# Altium footprint library Generic Devices.PcbLib: 33 footprints (part 1 of 3)
Each footprint in its own frame and in the unit in brackets; x right, y up, seen from the top. Pads: shape width x height; smd on the part's side, far side on the other; paste and mask are expansions set on the pad; w line width, h text height; cw(c..) or ccw(c..) is an arc to the next point about the centre after c.
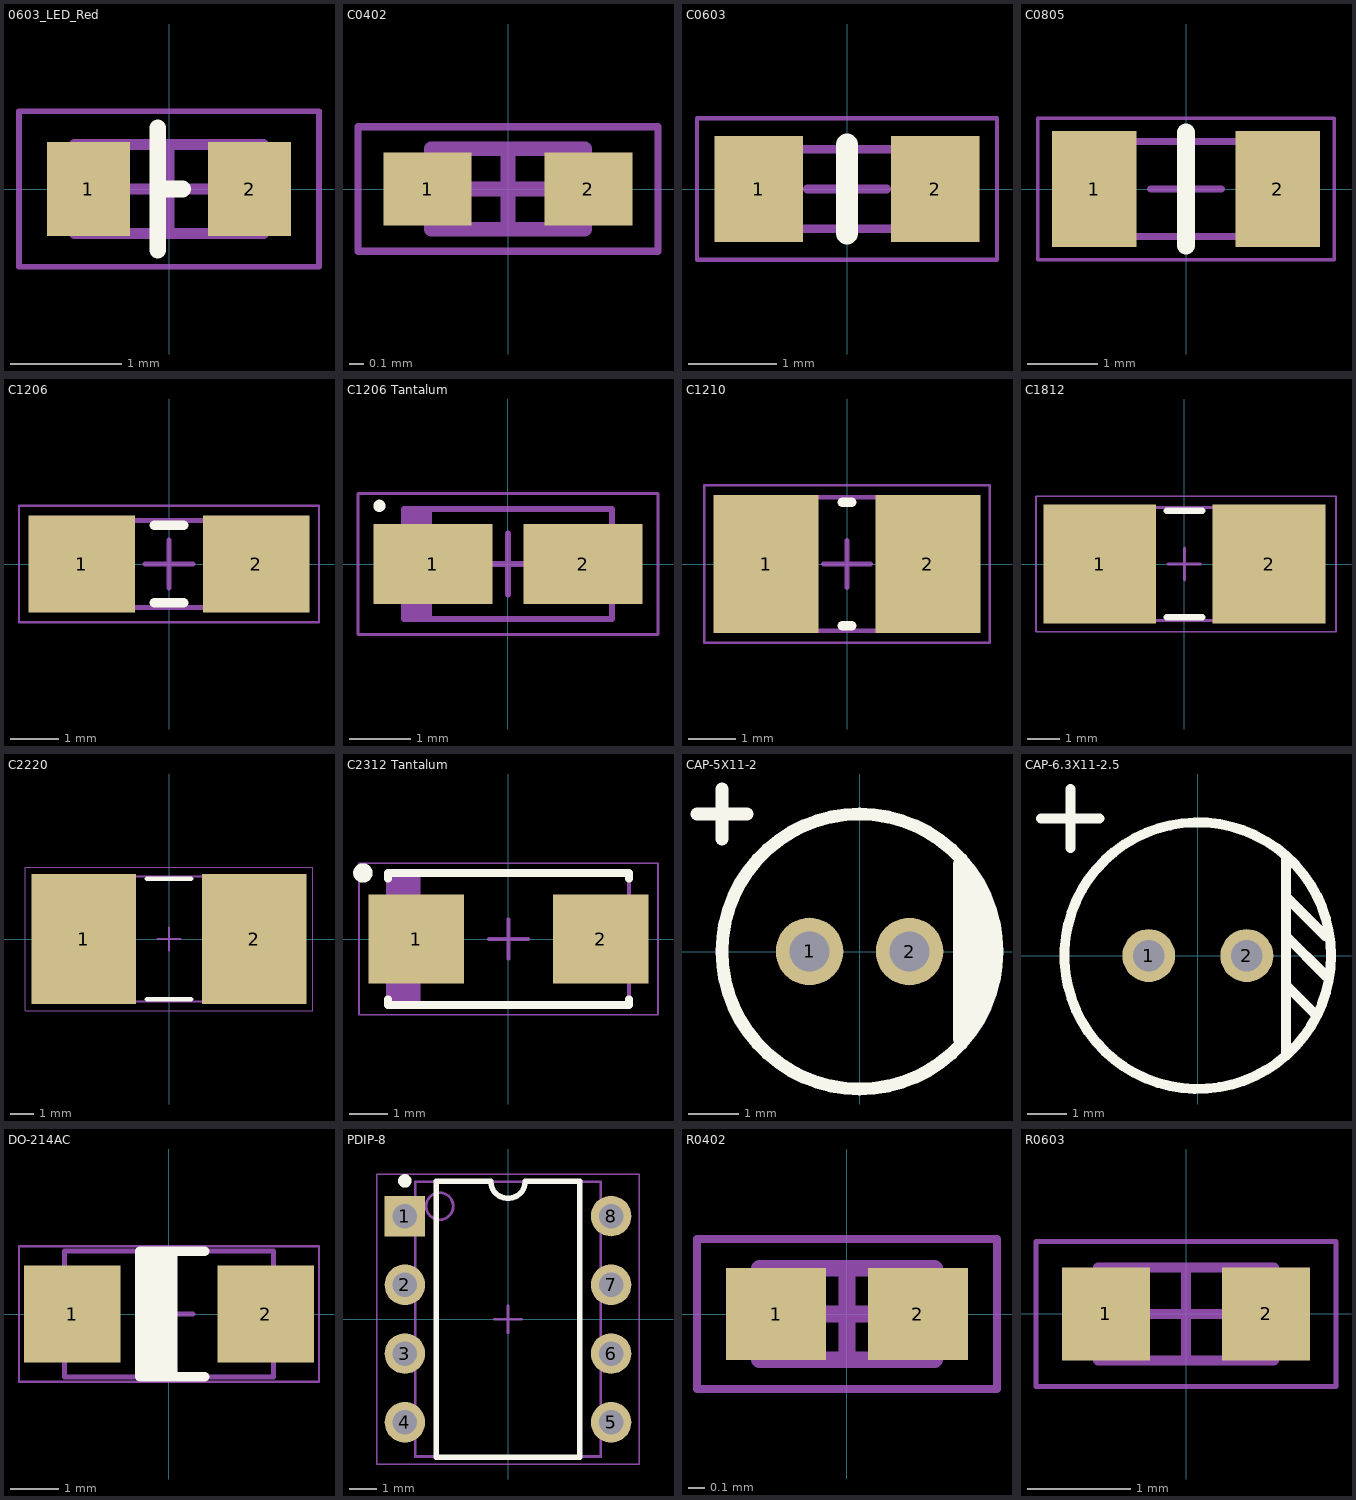
[diagram p0: the footprints below, top view; thin cyan lines are the x and y axes]

## 0603_LED_Red [mm] "Chip LED Diode, 2-Leads, Body 1.60x0.75mm, IPC Medium Density"
height 0.45
pads (2):
  rect 0.75x0.85 smd: 1(-0.725,0) 2(0.725,0)
Top Overlay:
  lines w0.15: -0.1,-0.55 -0.1,0.55 ; -0.1,0 0.125,0
Mechanical 13:
  lines w0.1: -0.85,-0.4 0.85,-0.4 0.85,0.4 -0.85,0.4 -0.85,-0.4
Mechanical 15:
  lines w0.05: -1.35,-0.7 1.35,-0.7 1.35,0.7 -1.35,0.7 -1.35,-0.7
  lines w0.1: -0.4,0 0.4,0 ; 0,-0.4 0,0.4
3D body: height 0.28, standoff 0, extent -0.55,-0.4 0.55,0.4
3D body: height 0.28, standoff 0, extent 0.55,-0.4 0.85,0.4
3D body: height 0.3, standoff 0.25, extent 0,-0.15 0.3,0.15
3D body: height 0.28, standoff 0, extent -0.85,-0.4 -0.55,0.4
3D body: height 0.45, standoff 0, extent -0.55,-0.4 0.55,0.4

## C0402 [mm] "Chip Capacitor, 2-Leads, 0402, IPC Medium Density"
height 0.55
pads (2):
  rect 0.6x0.5 smd: 1(-0.55,0) 2(0.55,0)
Mechanical 13:
  lines w0.1: -0.525,-0.275 0.525,-0.275 0.525,0.275 -0.525,0.275 -0.525,-0.275
Mechanical 15:
  lines w0.05: -1.025,-0.425 -1.025,0.425 1.025,0.425 1.025,-0.425 -1.025,-0.425
  lines w0.1: -0.275,0 0.275,0 ; 0,-0.275 0,0.275
3D body "C0402.step": height 0.55, standoff 0, extent -0.525,-0.275 0.525,0.275

## C0603 [mm] "Chip Capacitor, 2-Leads, 0603, IPC Medium Density"
height 0.9
pads (2):
  rect 1x1.2 smd: 1(-1,0) 2(1,0)
Top Overlay:
  lines w0.254: 0,-0.5 0,0.5
Mechanical 13:
  lines w0.1: -0.85,-0.45 0.85,-0.45 0.85,0.45 -0.85,0.45 -0.85,-0.45
Mechanical 15:
  lines w0.05: -1.7,-0.8 1.7,-0.8 1.7,0.8 -1.7,0.8 -1.7,-0.8
  lines w0.1: -0.45,0 0.45,0 ; 0,-0.45 0,0.45
3D body "C0603.step": height 0.9, standoff 0, extent -0.85,-0.45 0.85,0.45

## C0805 [mm] "Chip Capacitor, 2-Leads, 0805, IPC Medium Density"
height 1.35
pads (2):
  rect 1.2x1.65 smd: 1(-1.3,0) 2(1.3,0)
Top Overlay:
  lines w0.254: 0,-0.8 0,0.8
Mechanical 13:
  lines w0.1: -1.05,-0.675 1.05,-0.675 1.05,0.675 -1.05,0.675 -1.05,-0.675
Mechanical 15:
  lines w0.05: -2.1,-1 2.1,-1 2.1,1 -2.1,1 -2.1,-1
  lines w0.1: -0.5,0 0.5,0 ; 0,-0.5 0,0.5
3D body "C0805.step": height 1.35, standoff 0, extent -1.05,-0.675 1.05,0.675

## C1206 [mm] "Chip Capacitor, 2-Leads, 1206, IPC Medium Density"
height 1.8
pads (2):
  rect 2.2x2 smd: 1(-1.8,0) 2(1.8,0)
Top Overlay:
  lines w0.2: -0.3,-0.8 0.3,-0.8 ; -0.3,0.8 0.3,0.8
Mechanical 13:
  lines w0.1: -1.7,-0.9 1.7,-0.9 1.7,0.9 -1.7,0.9 -1.7,-0.9
Mechanical 15:
  lines w0.05: -3.1,-1.2 3.1,-1.2 3.1,1.2 -3.1,1.2 -3.1,-1.2
  lines w0.1: -0.5,0 0.5,0 ; 0,-0.5 0,0.5
3D body: height 1.8, standoff 0, extent 1.2,-0.9 1.7,0.9
3D body: height 1.8, standoff 0, extent -1.7,-0.9 -1.2,0.9
3D body: height 1.8, standoff 0, extent -1.2,-0.9 1.2,0.9

## C1206 Tantalum [mm] "Molded Capacitor, 2-Leads, Body 3.20x1.65mm, IPC Medium Density"
height 1.8
pads (2):
  rect 1.95x1.3 smd: 1(-1.225,0) 2(1.225,0)
Top Overlay:
  circle w0.1: c-2.1,0.95 r0.05
Mechanical 13:
  rectangle: -1.7,-0.9 -1.243,0.9
  lines w0.1: -1.7,-0.9 1.7,-0.9 1.7,0.9 -1.7,0.9 -1.7,-0.9
Mechanical 15:
  lines w0.05: -2.45,-1.15 2.45,-1.15 2.45,1.15 -2.45,1.15 -2.45,-1.15
  lines w0.1: -0.5,0 0.5,0 ; 0,-0.5 0,0.5
3D body "C1206 Tantalum.step": height 1.8, standoff 0, extent -1.92,-0.9 1.92,0.9

## C1210 [mm] "Chip Capacitor, 2-Leads, C1210, IPC Medium Density"
height 2.8
pads (2):
  rect 2.2x2.9 smd: 1(-1.7,0) 2(1.7,0)
Top Overlay:
  lines w0.2: -0.1,-1.3 0.1,-1.3 ; -0.1,1.3 0.1,1.3
Mechanical 13:
  lines w0.1: -1.8,-1.4 -1.8,1.4 1.8,1.4 1.8,-1.4 -1.8,-1.4
Mechanical 15:
  lines w0.05: -3,-1.65 -3,1.65 3,1.65 3,-1.65 -3,-1.65
  lines w0.1: -0.5,0 0.5,0 ; 0,-0.5 0,0.5
3D body "C1210.step": height 2.8, standoff 0, extent -1.8,-1.4 1.8,1.4

## C1812 [mm] "Chip Capacitor, 2-Leads, 1812, IPC Medium Density"
height 3.5
pads (2):
  rect 3.5x3.7 smd: 1(-2.625,0) 2(2.625,0)
Top Overlay:
  lines w0.2: -0.55,-1.65 0.55,-1.65 ; -0.55,1.65 0.55,1.65
Mechanical 13:
  lines w0.1: -2.45,-1.75 2.45,-1.75 2.45,1.75 -2.45,1.75 -2.45,-1.75
Mechanical 15:
  lines w0.05: -4.6,-2.1 4.7,-2.1 4.7,2.1 -4.6,2.1 -4.6,-2.1
  lines w0.1: -0.5,0 0.5,0 ; 0,-0.5 0,0.5
3D body "C1812.step": height 3.5, standoff 0, extent -2.45,-1.75 2.45,1.75

## C2220 [mm] "Chip Capacitor, 2-Leads, 2220, IPC Medium Density"
height 3.5
pads (2):
  rect 4.5x5.6 smd: 1(-3.675,0) 2(3.675,0)
Top Overlay:
  lines w0.2: -0.95,-2.6 0.95,-2.6 ; -0.95,2.6 0.95,2.6
Mechanical 13:
  lines w0.1: -3.05,-2.7 -3.05,2.7 3.05,2.7 3.05,-2.7 -3.05,-2.7
Mechanical 15:
  lines w0.05: -6.2,-3.1 -6.2,3.1 6.2,3.1 6.2,-3.1 -6.2,-3.1
  lines w0.1: -0.5,0 0.5,0 ; 0,-0.5 0,0.5
3D body: height 3.5, standoff 0, extent -2.05,-2.7 2.05,2.7
3D body: height 3.5, standoff 0, extent -3.05,-2.7 -2.05,2.7
3D body: height 3.5, standoff 0, extent 2.05,-2.7 3.05,2.7

## C2312 Tantalum [mm] "Molded Capacitor, 2-Leads, Body 6.00x3.25mm, IPC Medium Density"
height 2.8
pads (2):
  rect 2.45x2.3 smd: 1(-2.375,0) 2(2.375,0)
Top Overlay:
  circle w0.25: c-3.75,1.7 r0.125
  lines w0.2: -3.1,-1.55 -3.1,-1.7 3.1,-1.7 3.1,-1.55 ; -3.1,1.55 -3.1,1.7 3.1,1.7 3.1,1.55
Mechanical 13:
  rectangle: -3.1,-1.7 -2.266,1.7
  lines w0.1: -3.1,-1.7 -3.1,1.7 3.1,1.7 3.1,-1.7 -3.1,-1.7
Mechanical 15:
  lines w0.05: -3.85,-1.95 -3.85,1.95 3.85,1.95 3.85,-1.95 -3.85,-1.95
  lines w0.1: -0.5,0 0.5,0 ; 0,-0.5 0,0.5
3D body "C2312 Tantalum .step": height 2.8, standoff 0, extent -3.32,-1.7 3.32,1.7

## CAP-5X11-2 [mm] "Capacitor; 5mm x 11mm; 2mm pitch"
height 12.5
pads (2):
  round 1.35 hole 0.8: 1(-1,0) 2(1,0)
Top Overlay:
  circle w0.254: c0,0 r2.75
  region: 2,-1.75 2.5,-1.25 2.5,-1 2.75,-0.75 2.75,0.75 2,1.75
  lines w0.254: -3.25,2.75 -2.25,2.75 ; -2.75,2.25 -2.75,3.25 ; 2,-1.75 2,1.75 ; 2,-0.25 2,0 ; 2,1 2,1
3D body: height 13, standoff 0.5, extent -2.75,-2.75 2.75,2.75

## CAP-6.3X11-2.5 [mm] "Capacitor; 6.3mm x 11mm; 2.5mm pitch"
height 12.5
pads (2):
  round 1.35 hole 0.8: 1(-1.25,0) 2(1.25,0)
Top Overlay:
  circle w0.254: c0,0 r3.4
  lines w0.254: -4,3.5 -2.5,3.5 ; -3.25,2.75 -3.25,4.25 ; 2.25,-2.5 2.25,2.5 ; 2.25,-0.75 3,-1.5 ; 2.25,0.75 2.25,0.5 3.25,-0.5 ; 2.25,1.75 2.25,1.5 3,0.75 3.25,0.5
3D body: height 13, standoff 0.5, extent -3.4,-3.4 3.4,3.4

## DO-214AC [mm] "Molded, 2-Leads, Body 4.57x2.92mm"
height 2.2
pads (2):
  rect 2x2 smd: 1(-2,0) 2(2,0)
Top Overlay:
  rectangle: -0.6,-1.3 0.178,1.3
  lines w0.2: 0.735,-1.3 -0.6,-1.3 -0.6,1.3 0.735,1.3
Mechanical 13:
  lines w0.1: -2.16,-1.3 -2.16,1.3 2.16,1.3 2.16,-1.3 -2.16,-1.3
Mechanical 15:
  lines w0.05: -3.1,-1.4 3.1,-1.4 3.1,1.4 -3.1,1.4 -3.1,-1.4
  lines w0.1: -0.5,0 0.5,0 ; 0,-0.5 0,0.5
3D body: height 2.2, standoff 0.05, extent -2.16,-1.3 2.16,1.3

## PDIP-8 [mm] "DIP, 8-Leads, Body 10.16x6.48mm, Pitch 2.54mm"
height 3.94
pads (8):
  rect 1.5x1.5 hole 0.9: 1(-3.81,3.81)
  round 1.5 hole 0.9: 2(-3.81,1.27) 3(-3.81,-1.27) 4(-3.81,-3.81) 5(3.81,-3.81) 6(3.81,-1.27) 7(3.81,1.27) 8(3.81,3.81)
Top Overlay:
  circle w0.25: c-3.81,5.11 r0.125
  lines w0.2: -2.65,-5.1 2.65,-5.1 2.65,5.1 0.635,5.1 cw(c0,5.1) -0.635,5.1 -2.65,5.1 -2.65,-5.1
Mechanical 13:
  circle w0.1: c-2.525,4.175 r0.5
  lines w0.1: -3.425,-5.075 3.425,-5.075 3.425,5.075 -3.425,5.075 -3.425,-5.075
Mechanical 15:
  lines w0.05: -4.85,-5.35 4.85,-5.35 4.85,5.35 -4.85,5.35 -4.85,-5.35
  lines w0.1: -0.5,0 0.5,0 ; 0,-0.5 0,0.5
3D body: height 3.94, standoff 0.51, extent -3.425,-5.075 3.425,5.075
3D body: height 0, standoff -1.6, extent 3.675,3.45 3.945,4.17
3D body: height 2.36, standoff 2.09, extent 3.425,3.31 3.945,4.31
3D body: height 2.09, standoff 0, extent 3.675,3.31 3.945,4.31
3D body: height 0, standoff -1.6, extent 3.675,0.91 3.945,1.63
3D body: height 2.36, standoff 2.09, extent 3.425,0.77 3.945,1.77
3D body: height 2.09, standoff 0, extent 3.675,0.77 3.945,1.77
3D body: height 0, standoff -1.6, extent 3.675,-1.63 3.945,-0.91
3D body: height 2.36, standoff 2.09, extent 3.425,-1.77 3.945,-0.77
3D body: height 2.09, standoff 0, extent 3.675,-1.77 3.945,-0.77
3D body: height 0, standoff -1.6, extent 3.675,-4.17 3.945,-3.45
3D body: height 2.36, standoff 2.09, extent 3.425,-4.31 3.945,-3.31
3D body: height 2.09, standoff 0, extent 3.675,-4.31 3.945,-3.31
3D body: height 0, standoff -1.6, extent -3.945,-4.17 -3.675,-3.45
3D body: height 2.36, standoff 2.09, extent -3.945,-4.31 -3.425,-3.31
3D body: height 2.09, standoff 0, extent -3.945,-4.31 -3.675,-3.31
3D body: height 0, standoff -1.6, extent -3.945,-1.63 -3.675,-0.91
3D body: height 2.36, standoff 2.09, extent -3.945,-1.77 -3.425,-0.77
3D body: height 2.09, standoff 0, extent -3.945,-1.77 -3.675,-0.77
3D body: height 0, standoff -1.6, extent -3.945,0.91 -3.675,1.63
3D body: height 2.36, standoff 2.09, extent -3.945,0.77 -3.425,1.77
3D body: height 2.09, standoff 0, extent -3.945,0.77 -3.675,1.77
3D body: height 0, standoff -1.6, extent -3.945,3.45 -3.675,4.17
3D body: height 2.36, standoff 2.09, extent -3.945,3.31 -3.425,4.31
3D body: height 2.09, standoff 0, extent -3.945,3.31 -3.675,4.31

## R0402 [mm] "Chip Resistor, 2-Leads, 0402, IPC Medium Density"
height 0.4
pads (2):
  rect 0.6x0.55 smd: 1(-0.425,0) 2(0.425,0)
Mechanical 13:
  lines w0.1: -0.525,-0.275 -0.525,0.275 0.525,0.275 0.525,-0.275 -0.525,-0.275
Mechanical 15:
  lines w0.05: -0.9,-0.45 -0.9,0.45 0.9,0.45 0.9,-0.45 -0.9,-0.45
  lines w0.1: -0.275,0 0.275,0 ; 0,-0.275 0,0.275
3D body "RESC1005X04N.step": height 0.4, standoff 0, extent -0.525,-0.275 0.525,0.275

## R0603 [mm] "Chip Resistor, 2-Leads, 0603, IPC Medium Density"
height 0.55
pads (2):
  rect 0.85x0.9 smd: 1(-0.775,0) 2(0.775,0)
Mechanical 13:
  lines w0.1: -0.85,-0.45 -0.85,0.45 0.85,0.45 0.85,-0.45 -0.85,-0.45
Mechanical 15:
  lines w0.05: -1.45,-0.7 -1.45,0.7 1.45,0.7 1.45,-0.7 -1.45,-0.7
  lines w0.1: -0.45,0 0.45,0 ; 0,-0.45 0,0.45
3D body: height 0.55, standoff 0, extent -0.6,-0.45 0.6,0.45
3D body: height 0.55, standoff 0, extent -0.85,-0.45 -0.6,0.45
3D body: height 0.55, standoff 0, extent 0.6,-0.45 0.85,0.45